# EAGLE library part SM-H82 (library inductor-neosid)
FILTER SMD helical filter
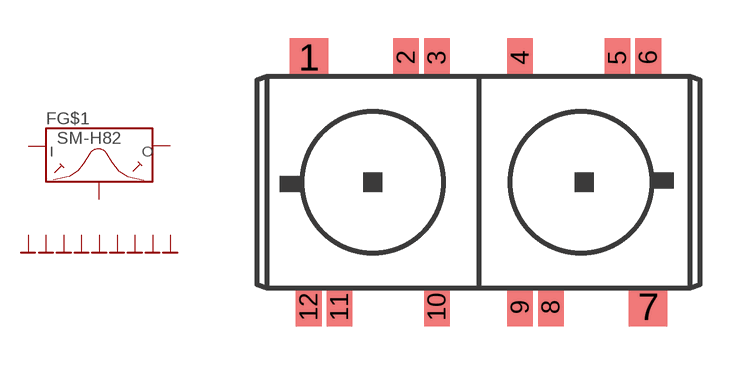
[diagram p1: symbol with the pads of SM-H82; footprint SM-H82]

Designator prefix F; gates G$1=HELIX-FI GND3=GND GND4=GND GND5=GND GND6=GND GND8=GND GND9=GND GND10=GND GND11=GND GND12=GND

## SM-H82 (OC_FARNELL: unknown; OC_NEWARK: unknown)  [SM-H82]
1  G$1:IN  pas
2  G$1:GND  pwr
3  GND3:GND  pwr
4  GND4:GND  pwr
5  GND5:GND  pwr
6  GND6:GND  pwr
7  G$1:OUT  pas
8  GND8:GND  pwr
9  GND9:GND  pwr
10  GND10:GND  pwr
11  GND11:GND  pwr
12  GND12:GND  pwr

## Footprint SM-H82 (pad centres in mm)
SMD HELICAL FILTER 8.45 x 17.5 x 5.4 mm
smd 1.5 x 1.5: 1 -6.625,4.875; 7 6.625,-4.875
smd 1 x 1.5: 2 -2.825,4.875; 3 -1.625,4.875; 4 1.625,4.875; 5 5.425,4.875; 6 6.625,4.875; 8 2.825,-4.875; 9 1.625,-4.875; 10 -1.625,-4.875; 11 -5.425,-4.875; 12 -6.625,-4.875